# Altium integrated library T1_Card.IntLib: 128 symbols (part 2 of 3)
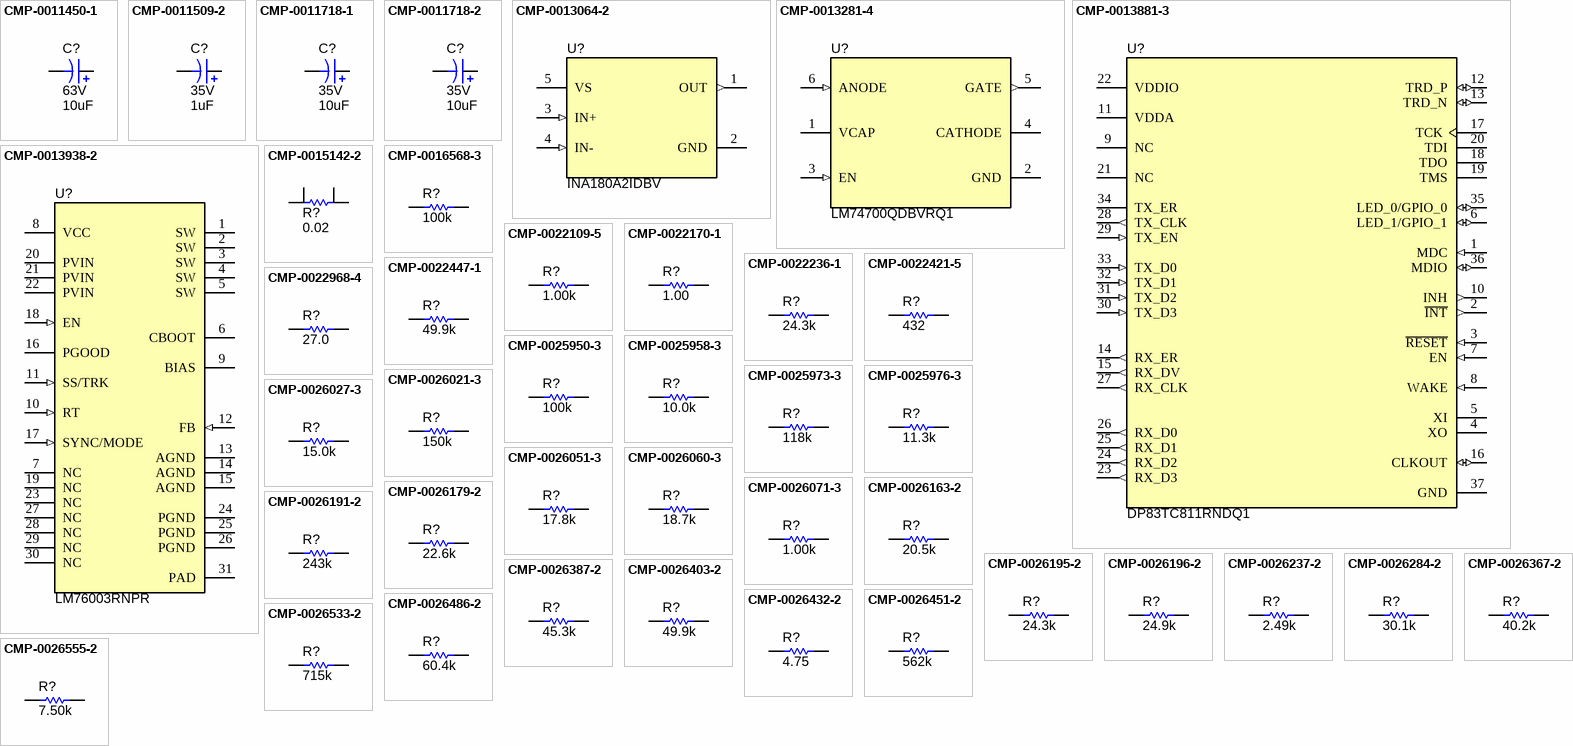
[diagram p4: symbols CMP-0011450-1 to CMP-0026555-2]

## CMP-0015142-2
designator R?, comment ValueDisplayed: 0.02  (hidden comment: LVK12R020FER)
RES, 0.02, 1%, 0.5 W, 1206 sense; Manufacturer: Ohmite; Power_W: 500mW; TempCo: 50 ppm/C; Value_Code: R020; U/M: EA; Value: 0.02; EIA_Code: E96; Value2: 0.5W; CompType: Resistor; AEC Category: Q200; Supplier Part Number 2: 588-LVK12R020FER; Publisher: Texas Instruments; Supplier 2: Mouser; Supplier Part Number 3: 1462286; Supplier 3: Farnell; Published: 2008-06-26; RoHS: Y; Value1: 1%; MountType: SMT; Supplier 1: Digi-Key; PackageReference: 1206 sense; Tolerance_%: 1%; Res_ohm: 0.02; LatestRevisionDate: 2017-03-09; PartNumber: LVK12R020FER; AEC Qualified: ?; ComponentLink1Description: Datasheet link; Supplier Part Number 1: LVK12R020FERCT-ND; Technology: Thick Film; ComponentLink1URL: http://www.ohmite.com/catalog/pdf/lvk.pdf
footprint LVK12 (Ohmite)
pins: 1, 2, 3, 4

## CMP-0016568-3
designator R?, comment ValueDisplayed: 100k  (hidden comment: CRCW1206100KFKEA)
RES, 100 k, 1%, 0.25 W, AEC-Q200 Grade 0, 1206; Manufacturer: Vishay-Dale; Power_W: 250mW; TempCo: 100 ppm/C; Value: 100k; EIA_Code: E96; SizeX_mm: 3.2; SizeY_mm: 1.6; SizeZ_mm: 1.35; Value2: 0.25W; SizeArea_mm2: 5.12; CompType: Resistor; AEC Qualified: Y; VDC_V: 200V; AEC Category: Q200; AEC Grade: 0; Supplier Part Number 2: 53K1920; Supplier 2: Newark; Supplier Part Number 3: 71-CRCW1206-100K-E3; Supplier 3: Mouser; Value_Code: 100k; RoHS: E; Value1: 1%; MountType: SMT; Supplier 1: Digi-Key; PackageReference: 1206; Tolerance_%: 1%; Res_ohm: 100k; PartNumber: CRCW1206100KFKEA; ComponentLink1Description: Datasheet link; Supplier Part Number 1: 541-100KFCT-ND; Technology: Thick Film; ComponentLink1URL: http://www.vishay.com/docs/20035/dcrcwe3.pdf
footprint 1206 (1206 from SM-752 data)
footprint 1206L (1206 from SM-752 data)
footprint 1206M (1206 from SM-752 data)
pins: 1, 2

## CMP-0022109-5
designator R?, comment ValueDisplayed: 1.00k  (hidden comment: CRCW06031K00FKEA)
RES, 1.00 k, 1%, 0.1 W, AEC-Q200 Grade 0, 0603; Manufacturer: Vishay-Dale; Power_W: 100mW; TempCo: 100 ppm/C; Value_Code: 1k00; Value: 1.00k; EIA_Code: E96; Res_ohm: 1k; SizeX_mm: 1.6; SizeY_mm: 0.8; SizeZ_mm: 1; Value2: 0.1W; SizeArea_mm2: 1.28; CompType: Resistor; AEC Qualified: Y; VDC_V: 75V; AEC Category: Q200; AEC Grade: 0; Supplier Part Number 2: 52K8015; Supplier 2: Newark; Supplier Part Number 3: 71-CRCW0603-1.0K-E3; Supplier 3: Mouser; RoHS: E; Value1: 1%; MountType: SMT; Supplier 1: Digi-Key; PackageReference: 0603; Tolerance_%: 1%; PartNumber: CRCW06031K00FKEA; ComponentLink1Description: Datasheet link; Supplier Part Number 1: 541-1.00KHCT-ND; Technology: Thick Film; ComponentLink1URL: http://www.vishay.com/docs/20035/dcrcwe3.pdf
footprint 0603 (0603 from SM-752 data)
footprint 0603_HV (Ernesto recommended land pattern.  26 mil between pads.)
footprint 0603L (0603 from SM-752 data)
footprint 0603S
footprint 0603M (0603 from SM-752 data)
pins: 1, 2

## CMP-0022170-1
designator R?, comment ValueDisplayed: 1.00  (hidden comment: CRCW06031R00FKEA)
RES, 1.00, 1%, 0.1 W, 0603; Manufacturer: Vishay-Dale; Power_W: 100mW; TempCo: 100 ppm/C; Value_Code: 1R00; U/M: EA; Value: 1.00; EIA_Code: E96; Res_ohm: 1; SizeX_mm: 1.6; SizeY_mm: 0.8; Value2: 0.1W; SizeArea_mm2: 1.28; CompType: Resistor; VDC_V: 75V; AEC Category: Q200; ComponentLink1URL: http://www.vishay.com/docs/20035/dcrcwe3.pdf; Supplier Part Number 2: 71-CRCW06031R00FKEA; Publisher: Texas Instruments; Supplier 2: Mouser; Supplier Part Number 3: 1616871; Supplier 3: Farnell; Published: 2008-06-26; RoHS: Y; Value1: 1%; MountType: SMT; Supplier 1: Newark; PackageReference: 0603; Tolerance_%: 1%; SizeZ_mm: 1; LatestRevisionDate: 2017-03-09; PartNumber: CRCW06031R00FKEA; AEC Qualified: ?; ComponentLink1Description: Datasheet link; Supplier Part Number 1: 52K8059; Technology: Thick Film
footprint 0603 (0603 from SM-752 data)
footprint 0603_HV (Ernesto recommended land pattern.  26 mil between pads.)
footprint 0603L (0603 from SM-752 data)
footprint 0603S
footprint 0603M (0603 from SM-752 data)
pins: 1, 2

## CMP-0022236-1
designator R?, comment ValueDisplayed: 24.3k  (hidden comment: CRCW060324K3FKEA)
RES, 24.3 k, 1%, 0.1 W, 0603; Manufacturer: Vishay-Dale; Power_W: 100mW; TempCo: 100 ppm/C; Value_Code: 24k3; U/M: EA; Value: 24.3k; EIA_Code: E96; SizeX_mm: 1.6; SizeY_mm: 0.8; SizeZ_mm: 1; Value2: 0.1W; SizeArea_mm2: 1.28; CompType: Resistor; VDC_V: 75V; AEC Category: Q200; ComponentLink1URL: http://www.vishay.com/docs/20035/dcrcwe3.pdf; Supplier Part Number 2: 52K8314; Publisher: Texas Instruments; Supplier 2: Newark; Supplier Part Number 3: 71-CRCW0603-24.3K-E3; Supplier 3: Mouser; Published: 2008-06-26; RoHS: Y; Value1: 1%; MountType: SMT; Supplier 1: Digi-Key; PackageReference: 0603; Tolerance_%: 1%; Res_ohm: 24.3k; LatestRevisionDate: 2017-03-09; PartNumber: CRCW060324K3FKEA; AEC Qualified: ?; ComponentLink1Description: Datasheet link; Supplier Part Number 1: 541-24.3KHCT-ND; Technology: Thick Film
footprint 0603 (0603 from SM-752 data)
footprint 0603_HV (Ernesto recommended land pattern.  26 mil between pads.)
footprint 0603L (0603 from SM-752 data)
footprint 0603S
footprint 0603M (0603 from SM-752 data)
pins: 1, 2

## CMP-0022421-5
designator R?, comment ValueDisplayed: 432  (hidden comment: CRCW0603432RFKEA)
RES, 432, 1%, 0.1 W, AEC-Q200 Grade 0, 0603; Manufacturer: Vishay-Dale; Power_W: 100mW; TempCo: 100 ppm/C; Value_Code: 432R; Value: 432; EIA_Code: E96; SizeX_mm: 1.6; SizeY_mm: 0.8; SizeZ_mm: 1; Value2: 0.1W; SizeArea_mm2: 1.28; CompType: Resistor; AEC Qualified: Y; VDC_V: 75V; AEC Category: Q200; AEC Grade: 0; Supplier Part Number 2: 52K8531; Supplier 2: Newark; Supplier Part Number 3: 71-CRCW0603-432-E3; Supplier 3: Mouser; RoHS: E; Value1: 1%; MountType: SMT; Supplier 1: Digi-Key; PackageReference: 0603; Tolerance_%: 1%; Res_ohm: 432; PartNumber: CRCW0603432RFKEA; ComponentLink1Description: Datasheet link; Supplier Part Number 1: 541-432HCT-ND; Technology: Thick Film; ComponentLink1URL: http://www.vishay.com/docs/20035/dcrcwe3.pdf
footprint 0603 (0603 from SM-752 data)
footprint 0603_HV (Ernesto recommended land pattern.  26 mil between pads.)
footprint 0603L (0603 from SM-752 data)
footprint 0603S
footprint 0603M (0603 from SM-752 data)
pins: 1, 2

## CMP-0022447-1
designator R?, comment ValueDisplayed: 49.9k  (hidden comment: CRCW060349K9FKEA)
RES, 49.9 k, 1%, 0.1 W, 0603; Manufacturer: Vishay-Dale; Power_W: 100mW; TempCo: 100 ppm/C; Value_Code: 49k9; U/M: EA; Value: 49.9k; EIA_Code: E96; SizeX_mm: 1.6; SizeY_mm: 0.8; SizeZ_mm: 1; Value2: 0.1W; SizeArea_mm2: 1.28; CompType: Resistor; VDC_V: 75V; AEC Category: Q200; ComponentLink1URL: http://www.vishay.com/docs/20035/dcrcwe3.pdf; Supplier Part Number 2: 71-CRCW0603-49.9K-E3; Publisher: Texas Instruments; Supplier 2: Mouser; Supplier Part Number 3: 1652882; Supplier 3: Farnell; Published: 2008-06-26; RoHS: Y; Value1: 1%; MountType: SMT; Supplier 1: Digi-Key; PackageReference: 0603; Tolerance_%: 1%; Res_ohm: 49.9k; LatestRevisionDate: 2017-03-09; PartNumber: CRCW060349K9FKEA; AEC Qualified: ?; ComponentLink1Description: Datasheet link; Supplier Part Number 1: 541-49.9KHCT-ND; Technology: Thick Film
footprint 0603 (0603 from SM-752 data)
footprint 0603_HV (Ernesto recommended land pattern.  26 mil between pads.)
footprint 0603L (0603 from SM-752 data)
footprint 0603S
footprint 0603M (0603 from SM-752 data)
pins: 1, 2

## CMP-0022968-4
designator R?, comment ValueDisplayed: 27.0  (hidden comment: RC0603FR-0727RL)
RES, 27.0, 1%, 0.1 W, 0603; Manufacturer: Yageo; Power_W: 100mW; TempCo: 100 ppm/C; Value_Code: 27R0; Value: 27.0; Res_ohm: 27; SizeX_mm: 1.6; SizeY_mm: 0.8; SizeZ_mm: 1; Value2: 0.1W; SizeArea_mm2: 1.28; CompType: Resistor; AEC Qualified: N; VDC_V: 75V; AEC Category: Q200; SizeAreaWB_mm2: 4.68; ComponentLink1URL: http://www.yageo.com/pdf/Pu-RC0603_51_PbFree_L_2.pdf; Supplier Part Number 2: 603-RC0603FR-0727RL; Supplier 2: Mouser; Supplier Part Number 3: 9238298; Supplier 3: Farnell; RoHS: Y; Value1: 1%; MountType: SMT; Supplier 1: Digi-Key; PackageReference: 0603; Tolerance_%: 1%; PartNumber: RC0603FR-0727RL; ComponentLink1Description: Datasheet link; Supplier Part Number 1: 311-27.0HRCT-ND; Technology: Thick Film; AEC Grade: N/A
footprint 0603 (0603 from SM-752 data)
footprint 0603_HV (Ernesto recommended land pattern.  26 mil between pads.)
footprint 0603L (0603 from SM-752 data)
footprint 0603S
footprint 0603M (0603 from SM-752 data)
pins: 1, 2

## CMP-0025950-3
designator R?, comment ValueDisplayed: 100k  (hidden comment: CRCW0402100KFKED)
RES, 100 k, 1%, 0.063 W, AEC-Q200 Grade 0, 0402; Manufacturer: Vishay-Dale; Power_W: 63mW; TempCo: 100 ppm/C; Value: 100k; EIA_Code: E96; SizeX_mm: 1; SizeY_mm: 0.5; SizeZ_mm: 0.6; Value2: 0.063W; CompType: Resistor; AEC Qualified: Y; VDC_V: 50V; AEC Category: Q200; AEC Grade: 0; Supplier Part Number 2: 52K6607; Supplier 2: Newark; Supplier Part Number 3: 71-CRCW0402-100K-E3; Supplier 3: Mouser; Value_Code: 100k; RoHS: E; Value1: 1%; MountType: SMT; Supplier 1: Digi-Key; PackageReference: 0402; Tolerance_%: 1%; Res_ohm: 100k; SizeArea_mm2: 0.5; PartNumber: CRCW0402100KFKED; ComponentLink1Description: Datasheet link; Supplier Part Number 1: 541-100KLCT-ND; Technology: Thick Film; ComponentLink1URL: http://www.vishay.com/docs/20035/dcrcwe3.pdf
footprint 0402 (0402 from SM-752 data)
footprint 0402S (Based on C0402S footprint from PADS legacy)
footprint 0402L (0402 from SM-752 data)
footprint 0402M (0402 from SM-752 data)
pins: 1, 2

## CMP-0025958-3
designator R?, comment ValueDisplayed: 10.0k  (hidden comment: CRCW040210K0FKED)
RES, 10.0 k, 1%, 0.063 W, AEC-Q200 Grade 0, 0402; Manufacturer: Vishay-Dale; Power_W: 63mW; TempCo: 100 ppm/C; Value_Code: 10k0; Value: 10.0k; EIA_Code: E96; Res_ohm: 10k; SizeX_mm: 1; SizeY_mm: 0.5; SizeZ_mm: 0.6; Value2: 0.063W; CompType: Resistor; AEC Qualified: Y; VDC_V: 50V; AEC Category: Q200; AEC Grade: 0; Supplier Part Number 2: 52K6595; Supplier 2: Newark; Supplier Part Number 3: 71-CRCW0402-10K-E3; Supplier 3: Mouser; RoHS: E; Value1: 1%; MountType: SMT; Supplier 1: Digi-Key; PackageReference: 0402; Tolerance_%: 1%; SizeArea_mm2: 0.5; PartNumber: CRCW040210K0FKED; ComponentLink1Description: Datasheet link; Supplier Part Number 1: 541-10.0KLCT-ND; Technology: Thick Film; ComponentLink1URL: http://www.vishay.com/docs/20035/dcrcwe3.pdf
footprint 0402 (0402 from SM-752 data)
footprint 0402S (Based on C0402S footprint from PADS legacy)
footprint 0402L (0402 from SM-752 data)
footprint 0402M (0402 from SM-752 data)
pins: 1, 2

## CMP-0025973-3
designator R?, comment ValueDisplayed: 118k  (hidden comment: CRCW0402118KFKED)
RES, 118 k, 1%, 0.063 W, AEC-Q200 Grade 0, 0402; Manufacturer: Vishay-Dale; Power_W: 63mW; TempCo: 100 ppm/C; Value: 118k; EIA_Code: E96; SizeX_mm: 1; SizeY_mm: 0.5; SizeZ_mm: 0.6; Value2: 0.063W; CompType: Resistor; AEC Qualified: Y; VDC_V: 50V; AEC Category: Q200; AEC Grade: 0; Supplier Part Number 2: 52K6643; Supplier 2: Newark; Supplier Part Number 3: 71-CRCW0402-118K-E3; Supplier 3: Mouser; Value_Code: 118k; RoHS: E; Value1: 1%; MountType: SMT; Supplier 1: Digi-Key; PackageReference: 0402; Tolerance_%: 1%; Res_ohm: 118k; SizeArea_mm2: 0.5; PartNumber: CRCW0402118KFKED; ComponentLink1Description: Datasheet link; Supplier Part Number 1: 541-118KLCT-ND; Technology: Thick Film; ComponentLink1URL: http://www.vishay.com/docs/20035/dcrcwe3.pdf
footprint 0402 (0402 from SM-752 data)
footprint 0402S (Based on C0402S footprint from PADS legacy)
footprint 0402L (0402 from SM-752 data)
footprint 0402M (0402 from SM-752 data)
pins: 1, 2

## CMP-0025976-3
designator R?, comment ValueDisplayed: 11.3k  (hidden comment: CRCW040211K3FKED)
RES, 11.3 k, 1%, 0.063 W, AEC-Q200 Grade 0, 0402; Manufacturer: Vishay-Dale; Power_W: 63mW; TempCo: 100 ppm/C; Value_Code: 11k3; Value: 11.3k; EIA_Code: E96; SizeX_mm: 1; SizeY_mm: 0.5; SizeZ_mm: 0.6; Value2: 0.063W; CompType: Resistor; AEC Qualified: Y; VDC_V: 50V; AEC Category: Q200; AEC Grade: 0; Supplier Part Number 2: 52K6622; Supplier 2: Newark; Supplier Part Number 3: 71-CRCW0402-11.3K-E3; Supplier 3: Mouser; RoHS: E; Value1: 1%; MountType: SMT; Supplier 1: Digi-Key; PackageReference: 0402; Tolerance_%: 1%; Res_ohm: 11.3k; SizeArea_mm2: 0.5; PartNumber: CRCW040211K3FKED; ComponentLink1Description: Datasheet link; Supplier Part Number 1: 541-11.3KLCT-ND; Technology: Thick Film; ComponentLink1URL: http://www.vishay.com/docs/20035/dcrcwe3.pdf
footprint 0402 (0402 from SM-752 data)
footprint 0402S (Based on C0402S footprint from PADS legacy)
footprint 0402L (0402 from SM-752 data)
footprint 0402M (0402 from SM-752 data)
pins: 1, 2

## CMP-0026021-3
designator R?, comment ValueDisplayed: 150k  (hidden comment: CRCW0402150KFKED)
RES, 150 k, 1%, 0.063 W, AEC-Q200 Grade 0, 0402; Manufacturer: Vishay-Dale; Power_W: 63mW; TempCo: 100 ppm/C; Value: 150k; EIA_Code: E96; SizeX_mm: 1; SizeY_mm: 0.5; SizeZ_mm: 0.6; Value2: 0.063W; CompType: Resistor; AEC Qualified: Y; VDC_V: 50V; AEC Category: Q200; AEC Grade: 0; Supplier Part Number 2: 52K6719; Supplier 2: Newark; Supplier Part Number 3: 71-CRCW0402-150K-E3; Supplier 3: Mouser; Value_Code: 150k; RoHS: E; Value1: 1%; MountType: SMT; Supplier 1: Digi-Key; PackageReference: 0402; Tolerance_%: 1%; Res_ohm: 150k; SizeArea_mm2: 0.5; PartNumber: CRCW0402150KFKED; ComponentLink1Description: Datasheet link; Supplier Part Number 1: 541-150KLCT-ND; Technology: Thick Film; ComponentLink1URL: http://www.vishay.com/docs/20035/dcrcwe3.pdf
footprint 0402 (0402 from SM-752 data)
footprint 0402S (Based on C0402S footprint from PADS legacy)
footprint 0402L (0402 from SM-752 data)
footprint 0402M (0402 from SM-752 data)
pins: 1, 2

## CMP-0026027-3
designator R?, comment ValueDisplayed: 15.0k  (hidden comment: CRCW040215K0FKED)
RES, 15.0 k, 1%, 0.063 W, AEC-Q200 Grade 0, 0402; Manufacturer: Vishay-Dale; Power_W: 63mW; TempCo: 100 ppm/C; Value_Code: 15k0; Value: 15.0k; EIA_Code: E96; Res_ohm: 15k; SizeX_mm: 1; SizeY_mm: 0.5; SizeZ_mm: 0.6; Value2: 0.063W; CompType: Resistor; AEC Qualified: Y; VDC_V: 50V; AEC Category: Q200; AEC Grade: 0; Supplier Part Number 2: 52K6708; Supplier 2: Newark; Supplier Part Number 3: 71-CRCW0402-15K-E3; Supplier 3: Mouser; RoHS: E; Value1: 1%; MountType: SMT; Supplier 1: Digi-Key; PackageReference: 0402; Tolerance_%: 1%; SizeArea_mm2: 0.5; PartNumber: CRCW040215K0FKED; ComponentLink1Description: Datasheet link; Supplier Part Number 1: 541-15.0KLCT-ND; Technology: Thick Film; ComponentLink1URL: http://www.vishay.com/docs/20035/dcrcwe3.pdf
footprint 0402 (0402 from SM-752 data)
footprint 0402S (Based on C0402S footprint from PADS legacy)
footprint 0402L (0402 from SM-752 data)
footprint 0402M (0402 from SM-752 data)
pins: 1, 2

## CMP-0026051-3
designator R?, comment ValueDisplayed: 17.8k  (hidden comment: CRCW040217K8FKED)
RES, 17.8 k, 1%, 0.063 W, AEC-Q200 Grade 0, 0402; Manufacturer: Vishay-Dale; Power_W: 63mW; TempCo: 100 ppm/C; Value_Code: 17k8; Value: 17.8k; EIA_Code: E96; SizeX_mm: 1; SizeY_mm: 0.5; SizeZ_mm: 0.6; Value2: 0.063W; CompType: Resistor; AEC Qualified: Y; VDC_V: 50V; AEC Category: Q200; AEC Grade: 0; Supplier Part Number 2: 52K6746; Supplier 2: Newark; Supplier Part Number 3: 71-CRCW0402-17.8K-E3; Supplier 3: Mouser; RoHS: E; Value1: 1%; MountType: SMT; Supplier 1: Digi-Key; PackageReference: 0402; Tolerance_%: 1%; Res_ohm: 17.8k; SizeArea_mm2: 0.5; PartNumber: CRCW040217K8FKED; ComponentLink1Description: Datasheet link; Supplier Part Number 1: 541-17.8KLCT-ND; Technology: Thick Film; ComponentLink1URL: http://www.vishay.com/docs/20035/dcrcwe3.pdf
footprint 0402 (0402 from SM-752 data)
footprint 0402S (Based on C0402S footprint from PADS legacy)
footprint 0402L (0402 from SM-752 data)
footprint 0402M (0402 from SM-752 data)
pins: 1, 2

## CMP-0026060-3
designator R?, comment ValueDisplayed: 18.7k  (hidden comment: CRCW040218K7FKED)
RES, 18.7 k, 1%, 0.063 W, AEC-Q200 Grade 0, 0402; Manufacturer: Vishay-Dale; Power_W: 63mW; TempCo: 100 ppm/C; Value_Code: 18k7; Value: 18.7k; EIA_Code: E96; SizeX_mm: 1; SizeY_mm: 0.5; SizeZ_mm: 0.6; Value2: 0.063W; CompType: Resistor; AEC Qualified: Y; VDC_V: 50V; AEC Category: Q200; AEC Grade: 0; Supplier Part Number 2: 52K6759; Supplier 2: Newark; Supplier Part Number 3: 71-CRCW0402-18.7K-E3; Supplier 3: Mouser; RoHS: E; Value1: 1%; MountType: SMT; Supplier 1: Digi-Key; PackageReference: 0402; Tolerance_%: 1%; Res_ohm: 18.7k; SizeArea_mm2: 0.5; PartNumber: CRCW040218K7FKED; ComponentLink1Description: Datasheet link; Supplier Part Number 1: 541-18.7KLCT-ND; Technology: Thick Film; ComponentLink1URL: http://www.vishay.com/docs/20035/dcrcwe3.pdf
footprint 0402 (0402 from SM-752 data)
footprint 0402S (Based on C0402S footprint from PADS legacy)
footprint 0402L (0402 from SM-752 data)
footprint 0402M (0402 from SM-752 data)
pins: 1, 2

## CMP-0026071-3
designator R?, comment ValueDisplayed: 1.00k  (hidden comment: CRCW04021K00FKED)
RES, 1.00 k, 1%, 0.063 W, AEC-Q200 Grade 0, 0402; Manufacturer: Vishay-Dale; Power_W: 63mW; TempCo: 100 ppm/C; Value_Code: 1k00; Value: 1.00k; EIA_Code: E96; Res_ohm: 1k; SizeX_mm: 1; SizeY_mm: 0.5; SizeZ_mm: 0.6; Value2: 0.063W; CompType: Resistor; AEC Qualified: Y; VDC_V: 50V; AEC Category: Q200; AEC Grade: 0; Supplier Part Number 2: 52K6545; Supplier 2: Newark; Supplier Part Number 3: 71-CRCW0402-1.0K-E3; Supplier 3: Mouser; RoHS: E; Value1: 1%; MountType: SMT; Supplier 1: Digi-Key; PackageReference: 0402; Tolerance_%: 1%; SizeArea_mm2: 0.5; PartNumber: CRCW04021K00FKED; ComponentLink1Description: Datasheet link; Supplier Part Number 1: 541-1.00KLCT-ND; Technology: Thick Film; ComponentLink1URL: http://www.vishay.com/docs/20035/dcrcwe3.pdf
footprint 0402 (0402 from SM-752 data)
footprint 0402S (Based on C0402S footprint from PADS legacy)
footprint 0402L (0402 from SM-752 data)
footprint 0402M (0402 from SM-752 data)
pins: 1, 2

## CMP-0026163-2
designator R?, comment ValueDisplayed: 20.5k  (hidden comment: CRCW040220K5FKED)
RES, 20.5 k, 1%, 0.063 W, AEC-Q200 Grade 0, 0402; Manufacturer: Vishay-Dale; Power_W: 63mW; TempCo: 100 ppm/C; Value_Code: 20k5; Value: 20.5k; EIA_Code: E96; SizeX_mm: 1; SizeY_mm: 0.5; SizeZ_mm: 0.6; Value2: 0.063W; CompType: Resistor; AEC Qualified: Y; VDC_V: 50V; AEC Category: Q200; AEC Grade: 0; ComponentLink1URL: http://www.vishay.com/docs/20035/dcrcwe3.pdf; Supplier Part Number 2: 52K6819; Supplier 2: Newark; Supplier Part Number 3: 71-CRCW0402-20.5K-E3; Supplier 3: Mouser; RoHS: E; Value1: 1%; MountType: SMT; Supplier 1: Digi-Key; PackageReference: 0402; Tolerance_%: 1%; Res_ohm: 20.5k; SizeArea_mm2: 0.5; PartNumber: CRCW040220K5FKED; ComponentLink1Description: Datasheet link; Supplier Part Number 1: 541-20.5KLCT-ND; Technology: Thick Film
footprint 0402 (0402 from SM-752 data)
footprint 0402S (Based on C0402S footprint from PADS legacy)
footprint 0402L (0402 from SM-752 data)
footprint 0402M (0402 from SM-752 data)
pins: 1, 2

## CMP-0026179-2
designator R?, comment ValueDisplayed: 22.6k  (hidden comment: CRCW040222K6FKED)
RES, 22.6 k, 1%, 0.063 W, AEC-Q200 Grade 0, 0402; Manufacturer: Vishay-Dale; Power_W: 63mW; TempCo: 100 ppm/C; Value_Code: 22k6; Value: 22.6k; EIA_Code: E96; SizeX_mm: 1; SizeY_mm: 0.5; SizeZ_mm: 0.6; Value2: 0.063W; CompType: Resistor; AEC Qualified: Y; VDC_V: 50V; AEC Category: Q200; AEC Grade: 0; ComponentLink1URL: http://www.vishay.com/docs/20035/dcrcwe3.pdf; Supplier Part Number 2: 52K6845; Supplier 2: Newark; Supplier Part Number 3: 71-CRCW0402-22.6K-E3; Supplier 3: Mouser; RoHS: E; Value1: 1%; MountType: SMT; Supplier 1: Digi-Key; PackageReference: 0402; Tolerance_%: 1%; Res_ohm: 22.6k; SizeArea_mm2: 0.5; PartNumber: CRCW040222K6FKED; ComponentLink1Description: Datasheet link; Supplier Part Number 1: 541-22.6KLCT-ND; Technology: Thick Film
footprint 0402 (0402 from SM-752 data)
footprint 0402S (Based on C0402S footprint from PADS legacy)
footprint 0402L (0402 from SM-752 data)
footprint 0402M (0402 from SM-752 data)
pins: 1, 2

## CMP-0026191-2
designator R?, comment ValueDisplayed: 243k  (hidden comment: CRCW0402243KFKED)
RES, 243 k, 1%, 0.063 W, AEC-Q200 Grade 0, 0402; Manufacturer: Vishay-Dale; Power_W: 63mW; TempCo: 100 ppm/C; Value: 243k; EIA_Code: E96; SizeX_mm: 1; SizeY_mm: 0.5; SizeZ_mm: 0.6; Value2: 0.063W; CompType: Resistor; AEC Qualified: Y; VDC_V: 50V; AEC Category: Q200; AEC Grade: 0; ComponentLink1URL: http://www.vishay.com/docs/20035/dcrcwe3.pdf; Supplier Part Number 2: 52K6881; Supplier 2: Newark; Supplier Part Number 3: 71-CRCW0402-243K-E3; Supplier 3: Mouser; Value_Code: 243k; RoHS: E; Value1: 1%; MountType: SMT; Supplier 1: Digi-Key; PackageReference: 0402; Tolerance_%: 1%; Res_ohm: 243k; SizeArea_mm2: 0.5; PartNumber: CRCW0402243KFKED; ComponentLink1Description: Datasheet link; Supplier Part Number 1: 541-243KLCT-ND; Technology: Thick Film
footprint 0402 (0402 from SM-752 data)
footprint 0402S (Based on C0402S footprint from PADS legacy)
footprint 0402L (0402 from SM-752 data)
footprint 0402M (0402 from SM-752 data)
pins: 1, 2

## CMP-0026195-2
designator R?, comment ValueDisplayed: 24.3k  (hidden comment: CRCW040224K3FKED)
RES, 24.3 k, 1%, 0.063 W, AEC-Q200 Grade 0, 0402; Manufacturer: Vishay-Dale; Power_W: 63mW; TempCo: 100 ppm/C; Value_Code: 24k3; Value: 24.3k; EIA_Code: E96; SizeX_mm: 1; SizeY_mm: 0.5; SizeZ_mm: 0.6; Value2: 0.063W; CompType: Resistor; AEC Qualified: Y; VDC_V: 50V; AEC Category: Q200; AEC Grade: 0; ComponentLink1URL: http://www.vishay.com/docs/20035/dcrcwe3.pdf; Supplier Part Number 2: 52K6874; Supplier 2: Newark; Supplier Part Number 3: 71-CRCW0402-24.3K-E3; Supplier 3: Mouser; RoHS: E; Value1: 1%; MountType: SMT; Supplier 1: Digi-Key; PackageReference: 0402; Tolerance_%: 1%; Res_ohm: 24.3k; SizeArea_mm2: 0.5; PartNumber: CRCW040224K3FKED; ComponentLink1Description: Datasheet link; Supplier Part Number 1: 541-24.3KLCT-ND; Technology: Thick Film
footprint 0402 (0402 from SM-752 data)
footprint 0402S (Based on C0402S footprint from PADS legacy)
footprint 0402L (0402 from SM-752 data)
footprint 0402M (0402 from SM-752 data)
pins: 1, 2

## CMP-0026196-2
designator R?, comment ValueDisplayed: 24.9k  (hidden comment: CRCW040224K9FKED)
RES, 24.9 k, 1%, 0.063 W, AEC-Q200 Grade 0, 0402; Manufacturer: Vishay-Dale; Power_W: 63mW; TempCo: 100 ppm/C; Value_Code: 24k9; Value: 24.9k; EIA_Code: E96; SizeX_mm: 1; SizeY_mm: 0.5; SizeZ_mm: 0.6; Value2: 0.063W; CompType: Resistor; AEC Qualified: Y; VDC_V: 50V; AEC Category: Q200; AEC Grade: 0; ComponentLink1URL: http://www.vishay.com/docs/20035/dcrcwe3.pdf; Supplier Part Number 2: 52K6876; Supplier 2: Newark; Supplier Part Number 3: 71-CRCW0402-24.9K-E3; Supplier 3: Mouser; RoHS: E; Value1: 1%; MountType: SMT; Supplier 1: Digi-Key; PackageReference: 0402; Tolerance_%: 1%; Res_ohm: 24.9k; SizeArea_mm2: 0.5; PartNumber: CRCW040224K9FKED; ComponentLink1Description: Datasheet link; Supplier Part Number 1: 541-24.9KLCT-ND; Technology: Thick Film
footprint 0402 (0402 from SM-752 data)
footprint 0402S (Based on C0402S footprint from PADS legacy)
footprint 0402L (0402 from SM-752 data)
footprint 0402M (0402 from SM-752 data)
pins: 1, 2

## CMP-0026237-2
designator R?, comment ValueDisplayed: 2.49k  (hidden comment: CRCW04022K49FKED)
RES, 2.49 k, 1%, 0.063 W, AEC-Q200 Grade 0, 0402; Manufacturer: Vishay-Dale; Power_W: 63mW; TempCo: 100 ppm/C; Value_Code: 2k49; Value: 2.49k; EIA_Code: E96; SizeX_mm: 1; SizeY_mm: 0.5; SizeZ_mm: 0.6; Value2: 0.063W; CompType: Resistor; AEC Qualified: Y; VDC_V: 50V; AEC Category: Q200; AEC Grade: 0; ComponentLink1URL: http://www.vishay.com/docs/20035/dcrcwe3.pdf; Supplier Part Number 2: 52K6803; Supplier 2: Newark; Supplier Part Number 3: 71-CRCW0402-2.49K-E3; Supplier 3: Mouser; RoHS: E; Value1: 1%; MountType: SMT; Supplier 1: Digi-Key; PackageReference: 0402; Tolerance_%: 1%; Res_ohm: 2.49k; SizeArea_mm2: 0.5; PartNumber: CRCW04022K49FKED; ComponentLink1Description: Datasheet link; Supplier Part Number 1: 541-2.49KLCT-ND; Technology: Thick Film
footprint 0402 (0402 from SM-752 data)
footprint 0402S (Based on C0402S footprint from PADS legacy)
footprint 0402L (0402 from SM-752 data)
footprint 0402M (0402 from SM-752 data)
pins: 1, 2

## CMP-0026284-2
designator R?, comment ValueDisplayed: 30.1k  (hidden comment: CRCW040230K1FKED)
RES, 30.1 k, 1%, 0.063 W, AEC-Q200 Grade 0, 0402; Manufacturer: Vishay-Dale; Power_W: 63mW; TempCo: 100 ppm/C; Value_Code: 30k1; Value: 30.1k; EIA_Code: E96; SizeX_mm: 1; SizeY_mm: 0.5; SizeZ_mm: 0.6; Value2: 0.063W; CompType: Resistor; AEC Qualified: Y; VDC_V: 50V; AEC Category: Q200; AEC Grade: 0; ComponentLink1URL: http://www.vishay.com/docs/20035/dcrcwe3.pdf; Supplier Part Number 2: 52K6954; Supplier 2: Newark; Supplier Part Number 3: 71-CRCW0402-30.1K-E3; Supplier 3: Mouser; RoHS: E; Value1: 1%; MountType: SMT; Supplier 1: Digi-Key; PackageReference: 0402; Tolerance_%: 1%; Res_ohm: 30.1k; SizeArea_mm2: 0.5; PartNumber: CRCW040230K1FKED; ComponentLink1Description: Datasheet link; Supplier Part Number 1: 541-30.1KLCT-ND; Technology: Thick Film
footprint 0402 (0402 from SM-752 data)
footprint 0402S (Based on C0402S footprint from PADS legacy)
footprint 0402L (0402 from SM-752 data)
footprint 0402M (0402 from SM-752 data)
pins: 1, 2

## CMP-0026367-2
designator R?, comment ValueDisplayed: 40.2k  (hidden comment: CRCW040240K2FKED)
RES, 40.2 k, 1%, 0.063 W, AEC-Q200 Grade 0, 0402; Manufacturer: Vishay-Dale; Power_W: 63mW; TempCo: 100 ppm/C; Value_Code: 40k2; Value: 40.2k; EIA_Code: E96; SizeX_mm: 1; SizeY_mm: 0.5; SizeZ_mm: 0.6; Value2: 0.063W; CompType: Resistor; AEC Qualified: Y; VDC_V: 50V; AEC Category: Q200; AEC Grade: 0; ComponentLink1URL: http://www.vishay.com/docs/20035/dcrcwe3.pdf; Supplier Part Number 2: 52K7049; Supplier 2: Newark; Supplier Part Number 3: 71-CRCW0402-40.2K-E3; Supplier 3: Mouser; RoHS: E; Value1: 1%; MountType: SMT; Supplier 1: Digi-Key; PackageReference: 0402; Tolerance_%: 1%; Res_ohm: 40.2k; SizeArea_mm2: 0.5; PartNumber: CRCW040240K2FKED; ComponentLink1Description: Datasheet link; Supplier Part Number 1: 541-40.2KLCT-ND; Technology: Thick Film
footprint 0402 (0402 from SM-752 data)
footprint 0402S (Based on C0402S footprint from PADS legacy)
footprint 0402L (0402 from SM-752 data)
footprint 0402M (0402 from SM-752 data)
pins: 1, 2

## CMP-0026387-2
designator R?, comment ValueDisplayed: 45.3k  (hidden comment: CRCW040245K3FKED)
RES, 45.3 k, 1%, 0.063 W, AEC-Q200 Grade 0, 0402; Manufacturer: Vishay-Dale; Power_W: 63mW; TempCo: 100 ppm/C; Value_Code: 45k3; Value: 45.3k; EIA_Code: E96; SizeX_mm: 1; SizeY_mm: 0.5; SizeZ_mm: 0.6; Value2: 0.063W; CompType: Resistor; AEC Qualified: Y; VDC_V: 50V; AEC Category: Q200; AEC Grade: 0; ComponentLink1URL: http://www.vishay.com/docs/20035/dcrcwe3.pdf; Supplier Part Number 2: 52K7083; Supplier 2: Newark; Supplier Part Number 3: 71-CRCW0402-45.3K-E3; Supplier 3: Mouser; RoHS: E; Value1: 1%; MountType: SMT; Supplier 1: Digi-Key; PackageReference: 0402; Tolerance_%: 1%; Res_ohm: 45.3k; SizeArea_mm2: 0.5; PartNumber: CRCW040245K3FKED; ComponentLink1Description: Datasheet link; Supplier Part Number 1: 541-45.3KLCT-ND; Technology: Thick Film
footprint 0402 (0402 from SM-752 data)
footprint 0402S (Based on C0402S footprint from PADS legacy)
footprint 0402L (0402 from SM-752 data)
footprint 0402M (0402 from SM-752 data)
pins: 1, 2

## CMP-0026403-2
designator R?, comment ValueDisplayed: 49.9k  (hidden comment: CRCW040249K9FKED)
RES, 49.9 k, 1%, 0.063 W, AEC-Q200 Grade 0, 0402; Manufacturer: Vishay-Dale; Power_W: 63mW; TempCo: 100 ppm/C; Value_Code: 49k9; Value: 49.9k; EIA_Code: E96; SizeX_mm: 1; SizeY_mm: 0.5; SizeZ_mm: 0.6; Value2: 0.063W; CompType: Resistor; AEC Qualified: Y; VDC_V: 50V; AEC Category: Q200; AEC Grade: 0; ComponentLink1URL: http://www.vishay.com/docs/20035/dcrcwe3.pdf; Supplier Part Number 2: 52K7113; Supplier 2: Newark; Supplier Part Number 3: 71-CRCW0402-49.9K-E3; Supplier 3: Mouser; RoHS: E; Value1: 1%; MountType: SMT; Supplier 1: Digi-Key; PackageReference: 0402; Tolerance_%: 1%; Res_ohm: 49.9k; SizeArea_mm2: 0.5; PartNumber: CRCW040249K9FKED; ComponentLink1Description: Datasheet link; Supplier Part Number 1: 541-49.9KLCT-ND; Technology: Thick Film
footprint 0402 (0402 from SM-752 data)
footprint 0402S (Based on C0402S footprint from PADS legacy)
footprint 0402L (0402 from SM-752 data)
footprint 0402M (0402 from SM-752 data)
pins: 1, 2

## CMP-0026432-2
designator R?, comment ValueDisplayed: 4.75  (hidden comment: CRCW04024R75FKED)
RES, 4.75, 1%, 0.063 W, AEC-Q200 Grade 0, 0402; Manufacturer: Vishay-Dale; Power_W: 63mW; TempCo: 100 ppm/C; Value_Code: 4R75; Value: 4.75; EIA_Code: E96; SizeX_mm: 1; SizeY_mm: 0.5; SizeZ_mm: 0.6; Value2: 0.063W; CompType: Resistor; AEC Qualified: Y; VDC_V: 50V; AEC Category: Q200; AEC Grade: 0; ComponentLink1URL: http://www.vishay.com/docs/20035/dcrcwe3.pdf; Supplier Part Number 2: 71-CRCW0402-4.75-E3; Supplier 2: Mouser; RoHS: E; Value1: 1%; MountType: SMT; Supplier 1: Digi-Key; PackageReference: 0402; Tolerance_%: 1%; Res_ohm: 4.75; SizeArea_mm2: 0.5; PartNumber: CRCW04024R75FKED; ComponentLink1Description: Datasheet link; Supplier Part Number 1: 541-4.75LLCT-ND; Technology: Thick Film
footprint 0402 (0402 from SM-752 data)
footprint 0402S (Based on C0402S footprint from PADS legacy)
footprint 0402L (0402 from SM-752 data)
footprint 0402M (0402 from SM-752 data)
pins: 1, 2

## CMP-0026451-2
designator R?, comment ValueDisplayed: 562k  (hidden comment: CRCW0402562KFKED)
RES, 562 k, 1%, 0.063 W, AEC-Q200 Grade 0, 0402; Manufacturer: Vishay-Dale; Power_W: 63mW; TempCo: 100 ppm/C; Value: 562k; EIA_Code: E96; SizeX_mm: 1; SizeY_mm: 0.5; SizeZ_mm: 0.6; Value2: 0.063W; CompType: Resistor; AEC Qualified: Y; VDC_V: 50V; AEC Category: Q200; AEC Grade: 0; ComponentLink1URL: http://www.vishay.com/docs/20035/dcrcwe3.pdf; Supplier Part Number 2: 52K7162; Supplier 2: Newark; Supplier Part Number 3: 71-CRCW0402-562K-E3; Supplier 3: Mouser; Value_Code: 562k; RoHS: E; Value1: 1%; MountType: SMT; Supplier 1: Digi-Key; PackageReference: 0402; Tolerance_%: 1%; Res_ohm: 562k; SizeArea_mm2: 0.5; PartNumber: CRCW0402562KFKED; ComponentLink1Description: Datasheet link; Supplier Part Number 1: 541-562KLCT-ND; Technology: Thick Film
footprint 0402 (0402 from SM-752 data)
footprint 0402S (Based on C0402S footprint from PADS legacy)
footprint 0402L (0402 from SM-752 data)
footprint 0402M (0402 from SM-752 data)
pins: 1, 2

## CMP-0026486-2
designator R?, comment ValueDisplayed: 60.4k  (hidden comment: CRCW040260K4FKED)
RES, 60.4 k, 1%, 0.063 W, AEC-Q200 Grade 0, 0402; Manufacturer: Vishay-Dale; Power_W: 63mW; TempCo: 100 ppm/C; Value_Code: 60k4; Value: 60.4k; EIA_Code: E96; SizeX_mm: 1; SizeY_mm: 0.5; SizeZ_mm: 0.6; Value2: 0.063W; CompType: Resistor; AEC Qualified: Y; VDC_V: 50V; AEC Category: Q200; AEC Grade: 0; ComponentLink1URL: http://www.vishay.com/docs/20035/dcrcwe3.pdf; Supplier Part Number 2: 52K7190; Supplier 2: Newark; Supplier Part Number 3: 71-CRCW0402-60.4K-E3; Supplier 3: Mouser; RoHS: E; Value1: 1%; MountType: SMT; Supplier 1: Digi-Key; PackageReference: 0402; Tolerance_%: 1%; Res_ohm: 60.4k; SizeArea_mm2: 0.5; PartNumber: CRCW040260K4FKED; ComponentLink1Description: Datasheet link; Supplier Part Number 1: 541-60.4KLCT-ND; Technology: Thick Film
footprint 0402 (0402 from SM-752 data)
footprint 0402S (Based on C0402S footprint from PADS legacy)
footprint 0402L (0402 from SM-752 data)
footprint 0402M (0402 from SM-752 data)
pins: 1, 2

## CMP-0026533-2
designator R?, comment ValueDisplayed: 715k  (hidden comment: CRCW0402715KFKED)
RES, 715 k, 1%, 0.063 W, AEC-Q200 Grade 0, 0402; Manufacturer: Vishay-Dale; Power_W: 63mW; TempCo: 100 ppm/C; Value: 715k; EIA_Code: E96; SizeX_mm: 1; SizeY_mm: 0.5; SizeZ_mm: 0.6; Value2: 0.063W; CompType: Resistor; AEC Qualified: Y; VDC_V: 50V; AEC Category: Q200; AEC Grade: 0; ComponentLink1URL: http://www.vishay.com/docs/20035/dcrcwe3.pdf; Supplier Part Number 2: 71-CRCW0402-715K-E3; Supplier 2: Mouser; Supplier Part Number 3: 1151471; Supplier 3: Farnell; Value_Code: 715k; RoHS: E; Value1: 1%; MountType: SMT; Supplier 1: Digi-Key; PackageReference: 0402; Tolerance_%: 1%; Res_ohm: 715k; SizeArea_mm2: 0.5; PartNumber: CRCW0402715KFKED; ComponentLink1Description: Datasheet link; Supplier Part Number 1: 541-715KLCT-ND; Technology: Thick Film
footprint 0402 (0402 from SM-752 data)
footprint 0402S (Based on C0402S footprint from PADS legacy)
footprint 0402L (0402 from SM-752 data)
footprint 0402M (0402 from SM-752 data)
pins: 1, 2

## CMP-0026555-2
designator R?, comment ValueDisplayed: 7.50k  (hidden comment: CRCW04027K50FKED)
RES, 7.50 k, 1%, 0.063 W, AEC-Q200 Grade 0, 0402; Manufacturer: Vishay-Dale; Power_W: 63mW; TempCo: 100 ppm/C; Value_Code: 7k50; Value: 7.50k; EIA_Code: E96; Res_ohm: 7.5k; SizeX_mm: 1; SizeY_mm: 0.5; SizeZ_mm: 0.6; Value2: 0.063W; CompType: Resistor; AEC Qualified: Y; VDC_V: 50V; AEC Category: Q200; AEC Grade: 0; ComponentLink1URL: http://www.vishay.com/docs/20035/dcrcwe3.pdf; Supplier Part Number 2: 52K7245; Supplier 2: Newark; Supplier Part Number 3: 71-CRCW0402-7.5K-E3; Supplier 3: Mouser; RoHS: E; Value1: 1%; MountType: SMT; Supplier 1: Digi-Key; PackageReference: 0402; Tolerance_%: 1%; SizeArea_mm2: 0.5; PartNumber: CRCW04027K50FKED; ComponentLink1Description: Datasheet link; Supplier Part Number 1: 541-7.50KLCT-ND; Technology: Thick Film
footprint 0402 (0402 from SM-752 data)
footprint 0402S (Based on C0402S footprint from PADS legacy)
footprint 0402L (0402 from SM-752 data)
footprint 0402M (0402 from SM-752 data)
pins: 1, 2

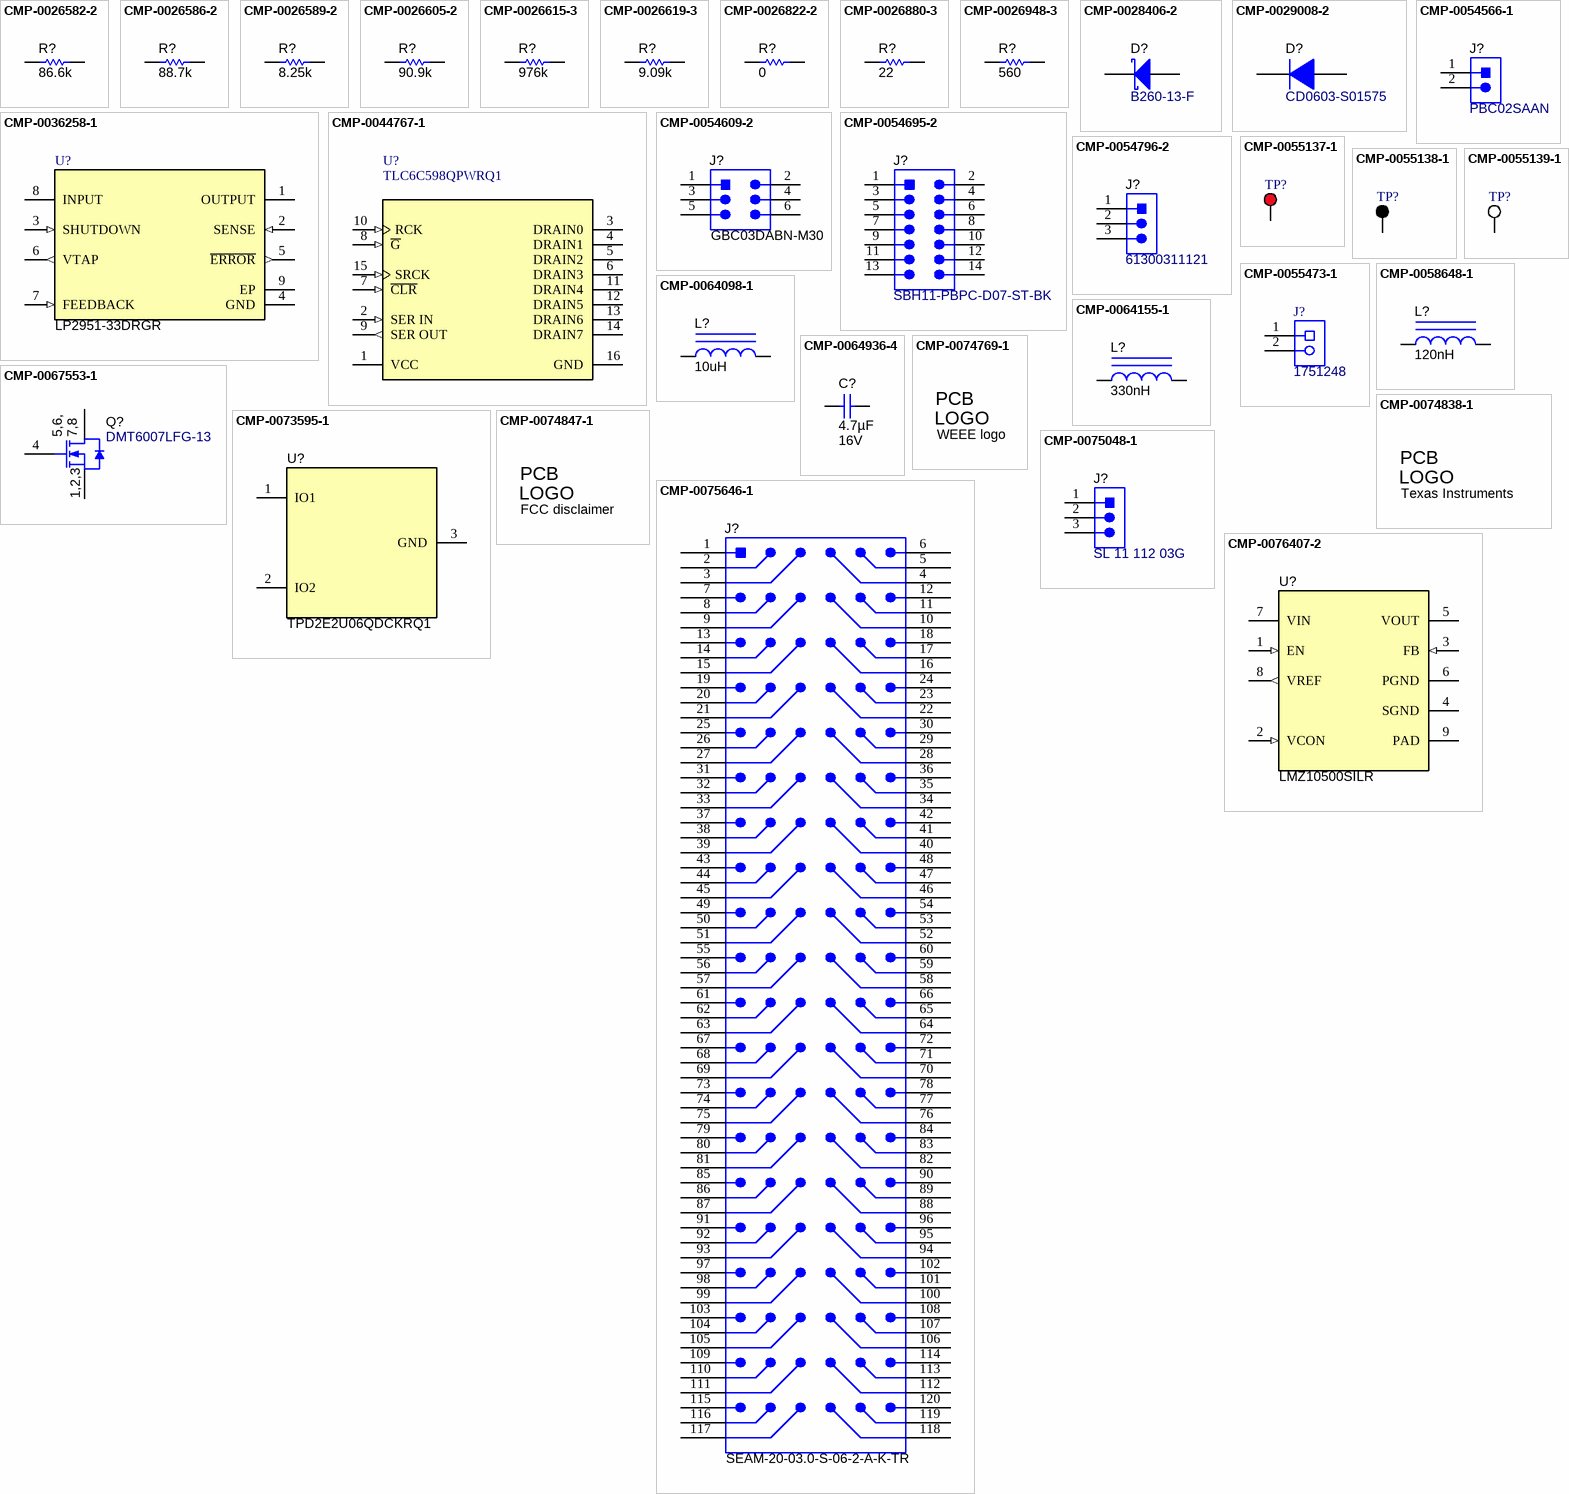
[diagram p2: symbols CMP-0026582-2 to CMP-0076407-2]

## CMP-0026582-2
designator R?, comment ValueDisplayed: 86.6k  (hidden comment: CRCW040286K6FKED)
RES, 86.6 k, 1%, 0.063 W, AEC-Q200 Grade 0, 0402; Manufacturer: Vishay-Dale; Power_W: 63mW; TempCo: 100 ppm/C; Value_Code: 86k6; Value: 86.6k; EIA_Code: E96; SizeX_mm: 1; SizeY_mm: 0.5; SizeZ_mm: 0.6; Value2: 0.063W; CompType: Resistor; AEC Qualified: Y; VDC_V: 50V; AEC Category: Q200; AEC Grade: 0; ComponentLink1URL: http://www.vishay.com/docs/20035/dcrcwe3.pdf; Supplier Part Number 2: 52K7318; Supplier 2: Newark; Supplier Part Number 3: 71-CRCW0402-86.6K-E3; Supplier 3: Mouser; RoHS: E; Value1: 1%; MountType: SMT; Supplier 1: Digi-Key; PackageReference: 0402; Tolerance_%: 1%; Res_ohm: 86.6k; SizeArea_mm2: 0.5; PartNumber: CRCW040286K6FKED; ComponentLink1Description: Datasheet link; Supplier Part Number 1: 541-86.6KLCT-ND; Technology: Thick Film
footprint 0402 (0402 from SM-752 data)
footprint 0402S (Based on C0402S footprint from PADS legacy)
footprint 0402L (0402 from SM-752 data)
footprint 0402M (0402 from SM-752 data)
pins: 1, 2

## CMP-0026586-2
designator R?, comment ValueDisplayed: 88.7k  (hidden comment: CRCW040288K7FKED)
RES, 88.7 k, 1%, 0.063 W, AEC-Q200 Grade 0, 0402; Manufacturer: Vishay-Dale; Power_W: 63mW; TempCo: 100 ppm/C; Value_Code: 88k7; Value: 88.7k; EIA_Code: E96; SizeX_mm: 1; SizeY_mm: 0.5; SizeZ_mm: 0.6; Value2: 0.063W; CompType: Resistor; AEC Qualified: Y; VDC_V: 50V; AEC Category: Q200; AEC Grade: 0; ComponentLink1URL: http://www.vishay.com/docs/20035/dcrcwe3.pdf; Supplier Part Number 2: 52K7326; Supplier 2: Newark; Supplier Part Number 3: 71-CRCW0402-88.7K-E3; Supplier 3: Mouser; RoHS: E; Value1: 1%; MountType: SMT; Supplier 1: Digi-Key; PackageReference: 0402; Tolerance_%: 1%; Res_ohm: 88.7k; SizeArea_mm2: 0.5; PartNumber: CRCW040288K7FKED; ComponentLink1Description: Datasheet link; Supplier Part Number 1: 541-88.7KLCT-ND; Technology: Thick Film
footprint 0402 (0402 from SM-752 data)
footprint 0402S (Based on C0402S footprint from PADS legacy)
footprint 0402L (0402 from SM-752 data)
footprint 0402M (0402 from SM-752 data)
pins: 1, 2

## CMP-0026589-2
designator R?, comment ValueDisplayed: 8.25k  (hidden comment: CRCW04028K25FKED)
RES, 8.25 k, 1%, 0.063 W, AEC-Q200 Grade 0, 0402; Manufacturer: Vishay-Dale; Power_W: 63mW; TempCo: 100 ppm/C; Value_Code: 8k25; Value: 8.25k; EIA_Code: E96; SizeX_mm: 1; SizeY_mm: 0.5; SizeZ_mm: 0.6; Value2: 0.063W; CompType: Resistor; AEC Qualified: Y; VDC_V: 50V; AEC Category: Q200; AEC Grade: 0; ComponentLink1URL: http://www.vishay.com/docs/20035/dcrcwe3.pdf; Supplier Part Number 2: 52K7288; Supplier 2: Newark; Supplier Part Number 3: 71-CRCW0402-8.25K-E3; Supplier 3: Mouser; RoHS: E; Value1: 1%; MountType: SMT; Supplier 1: Digi-Key; PackageReference: 0402; Tolerance_%: 1%; Res_ohm: 8.25k; SizeArea_mm2: 0.5; PartNumber: CRCW04028K25FKED; ComponentLink1Description: Datasheet link; Supplier Part Number 1: 541-8.25KLCT-ND; Technology: Thick Film
footprint 0402 (0402 from SM-752 data)
footprint 0402S (Based on C0402S footprint from PADS legacy)
footprint 0402L (0402 from SM-752 data)
footprint 0402M (0402 from SM-752 data)
pins: 1, 2

## CMP-0026605-2
designator R?, comment ValueDisplayed: 90.9k  (hidden comment: CRCW040290K9FKED)
RES, 90.9 k, 1%, 0.063 W, AEC-Q200 Grade 0, 0402; Manufacturer: Vishay-Dale; Power_W: 63mW; TempCo: 100 ppm/C; Value_Code: 90k9; Value: 90.9k; EIA_Code: E96; SizeX_mm: 1; SizeY_mm: 0.5; SizeZ_mm: 0.6; Value2: 0.063W; CompType: Resistor; AEC Qualified: Y; VDC_V: 50V; AEC Category: Q200; AEC Grade: 0; ComponentLink1URL: http://www.vishay.com/docs/20035/dcrcwe3.pdf; Supplier Part Number 2: 52K7338; Supplier 2: Newark; Supplier Part Number 3: 71-CRCW0402-90.9K-E3; Supplier 3: Mouser; RoHS: E; Value1: 1%; MountType: SMT; Supplier 1: Digi-Key; PackageReference: 0402; Tolerance_%: 1%; Res_ohm: 90.9k; SizeArea_mm2: 0.5; PartNumber: CRCW040290K9FKED; ComponentLink1Description: Datasheet link; Supplier Part Number 1: 541-90.9KLCT-ND; Technology: Thick Film
footprint 0402 (0402 from SM-752 data)
footprint 0402S (Based on C0402S footprint from PADS legacy)
footprint 0402L (0402 from SM-752 data)
footprint 0402M (0402 from SM-752 data)
pins: 1, 2

## CMP-0026615-3
designator R?, comment ValueDisplayed: 976k  (hidden comment: CRCW0402976KFKED)
RES, 976 k, 1%, 0.063 W, AEC-Q200 Grade 0, 0402; Manufacturer: Vishay-Dale; Power_W: 63mW; TempCo: 100 ppm/C; Value: 976k; EIA_Code: E96; SizeX_mm: 1; SizeY_mm: 0.5; SizeZ_mm: 0.6; Value2: 0.063W; CompType: Resistor; AEC Qualified: Y; VDC_V: 50V; AEC Category: Q200; AEC Grade: 0; ComponentLink1URL: http://www.vishay.com/docs/20035/dcrcwe3.pdf; Supplier Part Number 2: 52K7358; Supplier 2: Newark; Supplier Part Number 3: 71-CRCW0402-976K-E3; Supplier 3: Mouser; Value_Code: 976k; RoHS: E; Value1: 1%; MountType: SMT; Supplier 1: Digi-Key; PackageReference: 0402; Tolerance_%: 1%; Res_ohm: 976k; SizeArea_mm2: 0.5; PartNumber: CRCW0402976KFKED; ComponentLink1Description: Datasheet link; Supplier Part Number 1: 541-976KLCT-ND; Technology: Thick Film
footprint 0402 (0402 from SM-752 data)
footprint 0402S (Based on C0402S footprint from PADS legacy)
footprint 0402L (0402 from SM-752 data)
footprint 0402M (0402 from SM-752 data)
pins: 1, 2

## CMP-0026619-3
designator R?, comment ValueDisplayed: 9.09k  (hidden comment: CRCW04029K09FKED)
RES, 9.09 k, 1%, 0.063 W, AEC-Q200 Grade 0, 0402; Manufacturer: Vishay-Dale; VDC_V: 50V; Value2: 0.063W; Power_W: 63mW; AEC Qualified: Y; SizeZ_mm: 0.6; TempCo: 100 ppm/C; CompType: Resistor; SizeArea_mm2: 0.5; SizeX_mm: 1; Value: 9.09k; Value_Code: 9k09; AEC Category: Q200; AEC Grade: 0; EIA_Code: E96; PartNumber: CRCW04029K09FKED; Supplier Part Number 3: 71-CRCW0402-9.09K-E3; Supplier 1: Digi-Key; Supplier Part Number 1: 541-9.09KLCT-ND; Supplier 2: Newark; SizeY_mm: 0.5; Value1: 1%; ComponentLink1Description: Datasheet link; Res_ohm: 9.09k; ComponentLink1URL: http://www.vishay.com/docs/20035/dcrcwe3.pdf; Technology: Thick Film; MountType: SMT; Supplier Part Number 2: 52K7332; PackageReference: 0402; Supplier 3: Mouser; Tolerance_%: 1%; RoHS: E
footprint 0402 (0402 from SM-752 data)
footprint 0402S (Based on C0402S footprint from PADS legacy)
footprint 0402L (0402 from SM-752 data)
footprint 0402M (0402 from SM-752 data)
pins: 1, 2

## CMP-0026822-2
designator R?, comment ValueDisplayed: 0  (hidden comment: CRCW04020000Z0ED)
RES, 0, 5%, 0.063 W, 0402; Manufacturer: Vishay-Dale; Power_W: 63mW; TempCo: 200 ppm/C; Value_Code: 0000; U/M: EA; Value: 0; EIA_Code: E24; SizeX_mm: 1; SizeY_mm: 0.5; SizeZ_mm: 0.6; Value2: 0.063W; CompType: Resistor; VDC_V: 50V; AEC Category: Q200; Supplier Part Number 2: 52K6543; Publisher: Texas Instruments; Supplier 2: Newark; Supplier Part Number 3: 71-CRCW0402-0-E3; Supplier 3: Mouser; Published: 2008-06-26; RoHS: Y; Value1: 5%; MountType: SMT; Supplier 1: Digi-Key; PackageReference: 0402; Tolerance_%: 5%; Res_ohm: 0; SizeArea_mm2: 0.5; LatestRevisionDate: 2017-03-09; PartNumber: CRCW04020000Z0ED; AEC Qualified: ?; ComponentLink1Description: Datasheet link; Supplier Part Number 1: 541-0.0JCT-ND; Technology: Thick Film; ComponentLink1URL: http://www.vishay.com/docs/20035/dcrcwe3.pdf
footprint 0402 (0402 from SM-752 data)
footprint 0402S (Based on C0402S footprint from PADS legacy)
footprint 0402L (0402 from SM-752 data)
footprint 0402M (0402 from SM-752 data)
pins: 1, 2

## CMP-0026880-3
designator R?, comment ValueDisplayed: 22  (hidden comment: CRCW040222R0JNED)
RES, 22, 5%, 0.063 W, AEC-Q200 Grade 0, 0402; Manufacturer: Vishay-Dale; Power_W: 63mW; TempCo: 200 ppm/C; Value_Code: 22R0; Value: 22; EIA_Code: E24; SizeX_mm: 1; SizeY_mm: 0.5; SizeZ_mm: 0.6; Value2: 0.063W; CompType: Resistor; AEC Qualified: Y; VDC_V: 50V; AEC Category: Q200; AEC Grade: 0; Supplier Part Number 2: 59M6716; Supplier 2: Newark; Supplier Part Number 3: 71-CRCW0402J-22-E3; Supplier 3: Mouser; RoHS: E; Value1: 5%; MountType: SMT; Supplier 1: Digi-Key; PackageReference: 0402; Tolerance_%: 5%; Res_ohm: 22; SizeArea_mm2: 0.5; PartNumber: CRCW040222R0JNED; ComponentLink1Description: Datasheet link; Supplier Part Number 1: 541-22JCT-ND; Technology: Thick Film; ComponentLink1URL: http://www.vishay.com/docs/20035/dcrcwe3.pdf
footprint 0402 (0402 from SM-752 data)
footprint 0402S (Based on C0402S footprint from PADS legacy)
footprint 0402L (0402 from SM-752 data)
footprint 0402M (0402 from SM-752 data)
pins: 1, 2

## CMP-0026948-3
designator R?, comment ValueDisplayed: 560  (hidden comment: CRCW0402560RJNED)
RES, 560, 5%, 0.063 W, AEC-Q200 Grade 0, 0402; Manufacturer: Vishay-Dale; Power_W: 63mW; TempCo: 200 ppm/C; Value_Code: 560R; Value: 560; EIA_Code: E24; SizeX_mm: 1; SizeY_mm: 0.5; SizeZ_mm: 0.6; Value2: 0.063W; CompType: Resistor; AEC Qualified: Y; VDC_V: 50V; AEC Category: Q200; AEC Grade: 0; Supplier Part Number 2: 59M6740; Supplier 2: Newark; Supplier Part Number 3: 71-CRCW0402J-560-E3; Supplier 3: Mouser; RoHS: E; Value1: 5%; MountType: SMT; Supplier 1: Digi-Key; PackageReference: 0402; Tolerance_%: 5%; Res_ohm: 560; SizeArea_mm2: 0.5; PartNumber: CRCW0402560RJNED; ComponentLink1Description: Datasheet link; Supplier Part Number 1: 541-560JCT-ND; Technology: Thick Film; ComponentLink1URL: http://www.vishay.com/docs/20035/dcrcwe3.pdf
footprint 0402 (0402 from SM-752 data)
footprint 0402S (Based on C0402S footprint from PADS legacy)
footprint 0402L (0402 from SM-752 data)
footprint 0402M (0402 from SM-752 data)
pins: 1, 2

## CMP-0028406-2
designator D?, comment B260-13-F
Diode, Schottky, 60 V, 2 A, SMB; Manufacturer: Diodes Inc.; SizeArea_mm2: 21.336; Value1: 2A; Green_Lifecycle: Active; Vf_V: 700mV; SizeX_mm: 5.6; TJmax_C: 150°C; SizeZ_mm: 2.6; Green_REACh: Passed; Vr_V: 60V; Value2: 0.7V; RJC_CperW: 20; Value: 60V; AEC Category: Q101; SizeY_mm: 3.81; SizeAreaWB_mm2: 44.156; PackageReference: SMB; AEC Qualified: ?; Type: Schottky; Green_EU RoHS: Passed with Exemption; Green_EU RoHS-2: Passed; ComponentLink1Description: Datasheet link; Io_A: 2A; RoHS: Y; CompType: Diode; MountType: SMT; PartNumber: B260-13-F; ComponentLink1URL: http://www.diodes.com/datasheets/ds13004.pdf
footprint SMB (Molded Diode, 2-Leads, Body 5.4x3.6mm, IPC Medium Density, based on OnSemi component dimensions)
pins: 1 K, 2 A

## CMP-0029008-2
designator D?, comment CD0603-S01575
Diode, Switching, 100 V, 0.15 A, 0603 Diode; Manufacturer: Bourns; Vf_V: 1V; SizeAreaWB_mm2: 5.13; SizeX_mm: 1.7; Value1: 0.15A; Green_Lifecycle: Not Set; Io_A: 150mA; SizeArea_mm2: 1.53; SizeY_mm: 0.9; AEC Category: Q101; Vr_V: 100V; TJmax_C: 125°C; SizeZ_mm: 0.75; Green_REACh: Incomplete; Value: 100V; Green_EU RoHS: Incomplete; AEC Qualified: ?; Green_EU RoHS-2: Incomplete; MountType: SMT; CompType: Diode; ComponentLink1URL: http://www.bourns.com/pdfs/CD0603_1005.pdf; RoHS: Y; PartNumber: CD0603-S01575; PackageReference: 0603 Diode; Type: Switching; Value2: 1V; ComponentLink1Description: Datasheet link
footprint Diode_0603 (Based on Bourns recommended land pattern Rev 10/09)
pins: 1 K, 2 A

## CMP-0036258-1
designator U?, comment LP2951-33DRGR
Single Output LDO, 100 mA, Fixed 3.3 V Output, 3.7 to 30 V Input, -40 to 125 degC, 8-Pin SON (DRG), RoHS, Tape and Reel; Manufacturer: Texas Instruments; Fixed Output Options (V): 3.3; Iout (Max) (A): 0.1; Rating: Catalog; Vout (Max) (V): 3.333; Vin (Max) (V): 30; Vdo (Typ) (mV): 380; Iq (Typ) (mA): 0.075; Accuracy (%): 1.4; Vin (Min) (V): 3.7; Output Capacitor Type: Non-Ceramic; Vout (Min) (V): 3.267; Output Options: Fixed Output; PackageReference: DRG0008A; ComponentLink2Description: Datasheet; PackageVersion: 4205379/C; ComponentLink3Description: Package Specification; Packing: Tape and Reel; RoHS: TRUE; ComponentLink1URL: http://www.ti.com/; Mounting Technology: Surface Mount; Operating Temperature Range (C): -40 to 125; ComponentLink2URL: http://www.ti.com/lit/ds/symlink/lp2950-30.pdf; DatasheetVersion: SLVS582H; ComponentLink3URL: http://www.ti.com/lit/ml/mpds151b/mpds151b.pdf; ComponentLink1Description: Manufacturer URL; PackageDescription: 8-Pin Plastic Small Outline No-Lead, Body 3 x 3 mm, Pitch 0.5 mm; PartNumber: LP2951-33DRGR
footprint DRG0008A (SON, 8-Leads, Body 3x3mm, Pitch 0.5mm, Thermal Pad 2x1.2mm, TI Recommended)
pins: 1 OUTPUT (power), 2 SENSE (in), 3 SHUTDOWN (in), 4 GND (power), 5 ~{ERROR} (out), 6 VTAP (out), 7 FEEDBACK (in), 8 INPUT (power), 9 EP

## CMP-0044767-1
designator U?, comment TLC6C598QPWRQ1
Automotive Power Logic 8-Bit Shift Register LED Driver, PW0016A, LARGE T&R; Generic Part Number: TLC6C598-Q1; Manufacturer: Texas Instruments; rDS(on)(Ohms): 7.4; IO(CONT)(A): 0.05; VDS(Max)(V): 40; ICC(uA): 88; tPLH(ns): 218; Rating: Automotive; PackageReference: PW0016A; DatasheetVersion: SLIS142B; Operating Temperature Range(C): -40 to 125
footprint PW0016A_N (TSOP, 16-Leads, Body 5x4.4mm, Pitch 0.65mm, IPC Medium Density)
footprint PW0016A_M (TSOP, 16-Leads, Body 5x4.4mm, Pitch 0.65mm, IPC Low Density)
footprint PW0016A_L (TSOP, 16-Leads, Body 5x4.4mm, Pitch 0.65mm, IPC High Density)
pins: 1 VCC (power) "Power supply", 2 SER IN (in) "Serial data input", 3 DRAIN0 (oc) "Open-drain output", 4 DRAIN1 (oc) "Open-drain output", 5 DRAIN2 (oc) "Open-drain output", 6 DRAIN3 (oc) "Open-drain output", 7 ~{CLR} (in) "Shift register clear, active-low", 8 ~{G} (in) "Output enable, active-low", 9 SER OUT (out) "Serial data output", 10 RCK (in) "Register clock", 11 DRAIN4 (oc) "Open-drain output", 12 DRAIN5 (oc) "Open-drain output", 13 DRAIN6 (oc) "Open-drain output", 14 DRAIN7 (oc) "Open-drain output", 15 SRCK (in) "Shift register clock", 16 GND (power) "Power ground"

## CMP-0054566-1
designator J?, comment PBC02SAAN
Header, 100mil, 2x1, Gold, TH; Manufacturer: Sullins Connector Solutions; CNHeader: TRUE; Current_A: 3A; Green_Lifecycle: Active; Shrouded: N; Gender: Male; Green_REACh: Passed; Voltage_V: 1.8kV; Row_Count: 1; Pitch_mm: 2.54; CT: FALSE; Cert_UL: Y; ComponentLink1URL: http://www.sullinscorp.com/catalogs/77_PAGE108-109_.100_MALE_HDR.pdf; ClassName: Header; Publisher: Texas Instruments; Color: Black; RoHS: Y; MountType: TH; Green_EU RoHS-2: Passed; Supplier 1: Digi-Key; Green_EU RoHS: Passed; PackageReference: Sullins 100mil, 1x2, 230 mil above insulator; PinCount: 2; CompType: Header; LatestRevisionDate: 26/05/2017; PartNumber: PBC02SAAN; Orientation: Vertical; ComponentLink1Description: Datasheet URL; Supplier Part Number 1: S1011E-02-ND; ContactFinish: Gold
footprint Sullins_PBC02SAAN (Sullins 100mil, 1x2, 230 mil above insulator)
pins: 1, 2
1 alternate drawing of the same symbol

## CMP-0054609-2
designator J?, comment GBC03DABN-M30
Header, 2.54mm, 3x2, Gold, Black, SMT; Manufacturer: Sullins Connector Solutions; Shrouded: N; Gender: Male; Voltage_V: 600V; Row_Count: 2; RowSpacing_mm: 2.54; Cert_UL: Y; Current_A: 3A; ComponentLink1URL: http://www.sullinscorp.com/images/C10059.pdf; ClassName: Header; Color: Black; RoHS: Y; MountType: SMT; Supplier 1: Digi-Key; PackageReference: Header, 2.54mm, 3x2, SMT; PinCount: 6; CompType: Header; PartNumber: GBC03DABN-M30; Orientation: Vertical; ComponentLink1Description: Datasheet URL; Supplier Part Number 1: S2351E-03-ND; Pitch_mm: 2.54; ContactFinish: Gold
footprint Sullins_GBC03DABN-M30 (Header, 2.54mm, 3x2, SMT)
pins: 1, 2, 3, 4, 5, 6
1 alternate drawing of the same symbol

## CMP-0054695-2
designator J?, comment SBH11-PBPC-D07-ST-BK
Header (shrouded), 100 mil, 7x2, Gold, TH; Manufacturer: Sullins Connector Solutions; Green_REACh: Incomplete; Green_Lifecycle: Not Set; ComponentLink1URL: http://www.sullinscorp.com/catalogs/145_11_SERIES,_.100_BOX_HEADER.pdf; Green_EU RoHS-2: Incomplete; Supplier 1: Digi-Key; PackageReference: 7x2 Shrouded Header; CompType: Header; RoHS: Y; Supplier Part Number 1: S9170-ND; MountType: TH; Green_EU RoHS: Incomplete; PartNumber: SBH11-PBPC-D07-ST-BK; ComponentLink1Description: Datasheet URL
footprint CONN_SBH11-PBPC-D07-ST-BK (Sullins recommended land pattern)
pins: 1, 2, 3, 4, 5, 6, 7, 8, 9, 10, 11, 12, 13, 14
1 alternate drawing of the same symbol